# Altium schematic symbol library Schlib_TDK_Corporation.SchLib: 6 symbols
Pins are listed as number, name and electrical type; pins without a type are passive.

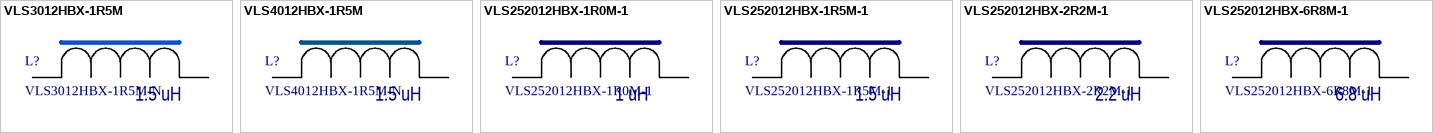
[diagram p0: symbols VLS3012HBX-1R5M to VLS252012HBX-6R8M-1]

## VLS3012HBX-1R5M
designator L?, comment VLS3012HBX-1R5M-N  Inductance @ 100 kHz: 1.5 uH
Shielded SMD Power Inductors; Manufacturer: TDK Corporation; RDC: 67 mOhm; Irms  Max: 3.77 A; Isat  Typ: 3.8 A; Part Number: VLS3012HBX-1R5M-N; Package: 3012
footprint VLS3012HBX (Inductor VLS3012HBX)
pins: 1, 2

## VLS4012HBX-1R5M
designator L?, comment VLS4012HBX-1R5M-N  Inductance @ 100 kHz: 1.5 uH
Shielded SMD Power Inductors; Manufacturer: TDK Corporation; RDC: 66 mOhm; Irms  Max: 4.07 A; Isat  Typ: 5.1 A; Part Number: VLS4012HBX-1R5M-N; Package: 4012
footprint VLS4012HBX (Inductor VLS4012HBX)
pins: 1, 2

## VLS252012HBX-1R0M-1
designator L?  Inductance @ 1 MHz: 1 uH
Shielded SMD Power Inductors; Manufacturer: TDK Corporation; RDC: 56 mOhm; Irms  Max: 3.53 A; Isat  Typ: 4.00 A; Part Number: VLS252012HBX-1R0M-1; Package: 25012
footprint VLS252012HBX (Inductor VLS252012HBX)
pins: 1, 2

## VLS252012HBX-1R5M-1
designator L?  Inductance @ 1 MHz: 1.5 uH
Shielded SMD Power Inductors; Manufacturer: TDK Corporation; RDC: 82 mOhm; Irms  Max: 2.5 A; Isat  Typ: 2.75 A; Part Number: VLS252012HBX-1R5M-1; Package: 25012
footprint VLS252012HBX (Inductor VLS252012HBX)
pins: 1, 2

## VLS252012HBX-2R2M-1
designator L?  Inductance @ 1 MHz: 2.2 uH
Shielded SMD Power Inductors; Manufacturer: TDK Corporation; RDC: 102 mOhm; Irms  Max: 2.04 A; Isat  Typ: 2.30 A; Part Number: VLS252012HBX-2R2M-1; Package: 25012
footprint VLS252012HBX (Inductor VLS252012HBX)
pins: 1, 2

## VLS252012HBX-6R8M-1
designator L?  Inductance @ 100 kHz: 6.8 uH
Shielded SMD Power Inductors; Manufacturer: TDK Corporation; RDC: 372 mOhm; Irms  Max: 1.15 A; Isat  Typ: 940 mA; Part Number: VLS252012HBX-6R8M-1; Package: 25012
footprint VLS252012HBX (Inductor VLS252012HBX)
pins: 1, 2